# Altium schematic symbol library Capacitors-1206.SchLib: 6 symbols
Pins are listed as number, name and electrical type; pins without a type are passive.

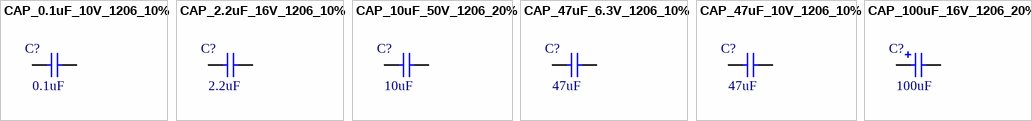
[diagram p0: symbols CAP_0.1uF_10V_1206_10% to CAP_100uF_16V_1206_20%]

## CAP_0.1uF_10V_1206_10%
designator C?, comment value 0.1uF  (hidden comment: 0.1uF 10V 1206)
0.1uF 10V 10% 1206 (3216 Metric); PartNumber: 885012208009; Manufacturer: Wurth; Mounting Technology: Surface Mount; PackageReference: 1206; PackageDescription: 1206 (3216 Metric); Voltage: 10V; Tolerance: 10%
footprint C1206[3216X160] (Chip Capacitor, Body 3.2x1.6mm)
pins: 1, 2

## CAP_2.2uF_16V_1206_10%
designator C?, comment value 2.2uF  (hidden comment: 2.2uF 16V 1206)
2.2uF 16V 10% X7R 1206 (3216 Metric); PartNumber: C1206C225K4RACAUTO; Manufacturer: KEMET; Mounting Technology: Surface Mount; PackageReference: 1206; PackageDescription: 1206 (3216 Metric); Voltage: 16V; Tolerance: 10%
footprint C1206[3216X160] (Chip Capacitor, Body 3.2x1.6mm)
pins: 1, 2

## CAP_10uF_50V_1206_20%
designator C?, comment value 10uF  (hidden comment: 10uF 50V 1206)
10uF 50V 20% 1206 (3216 Metric); PartNumber: UMK316BBJ106ML-T; Manufacturer: Taiyo Yuden; Mounting Technology: Surface Mount; PackageReference: 1206; PackageDescription: 1206 (3216 Metric); Voltage: 50V; Tolerance: 20%
footprint C1206[3216X160] (Chip Capacitor, Body 3.2x1.6mm)
pins: 1, 2

## CAP_47uF_6.3V_1206_10%
designator C?, comment value 47uF  (hidden comment: 47uF 6.3V 1206)
47uF 6.3V 10% 1206 (3216 Metric); PartNumber: GRM31CR60J476KE19L; Manufacturer: Murata; Mounting Technology: Surface Mount; PackageReference: 1206; PackageDescription: 1206 (3216 Metric); Voltage: 6.3V; Tolerance: 10%
footprint C1206[3216X160] (Chip Capacitor, Body 3.2x1.6mm)
pins: 1, 2

## CAP_47uF_10V_1206_10%
designator C?, comment value 47uF  (hidden comment: 47uF 10V 1206)
47uF 10V 10% 1206 (3216 Metric); PartNumber: GRM31CR61A476KE15L; Manufacturer: Murata; Mounting Technology: Surface Mount; PackageReference: 1206; PackageDescription: 1206 (3216 Metric); Voltage: 10V; Tolerance: 10%
footprint C1206[3216X160] (Chip Capacitor, Body 3.2x1.6mm)
pins: 1, 2

## CAP_100uF_16V_1206_20%
designator C?, comment value 100uF  (hidden comment: 100uF 16V 1206)
TANTAL 100uF 16V 20% 1206 (3216 Metric); PartNumber: F931C107MCCAJ6; Manufacturer: AVX Corporation; Mounting Technology: Surface Mount; PackageReference: 1206; PackageDescription: 1206 (3216 Metric); Voltage: 16V; Tolerance: 20%
footprint C1206[3216X105]_Tantal (Tantal Capacitor, Body 3.2x1.6mm)
pins: 1, 2